# EAGLE library part PIN_3X4X4 (library 01)
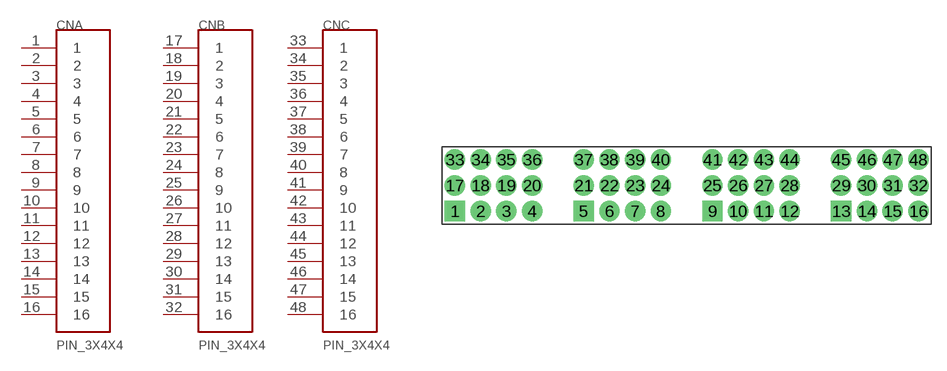
[diagram p7: symbol with the pads of PIN_3X4X4; footprint PIN_3X4X4]

Designator prefix CN; gates A=PIN1X16 B=PIN1X16 C=PIN1X16

## PIN_3X4X4  [PIN_3X4X4]
1  A:1
2  A:2
3  A:3
4  A:4
5  A:5
6  A:6
7  A:7
8  A:8
9  A:9
10  A:10
11  A:11
12  A:12
13  A:13
14  A:14
15  A:15
16  A:16
17  B:1
18  B:2
19  B:3
20  B:4
21  B:5
22  B:6
23  B:7
24  B:8
25  B:9
26  B:10
27  B:11
28  B:12
29  B:13
30  B:14
31  B:15
32  B:16
33  C:1
34  C:2
35  C:3
36  C:4
37  C:5
38  C:6
39  C:7
40  C:8
41  C:9
42  C:10
43  C:11
44  C:12
45  C:13
46  C:14
47  C:15
48  C:16

## Footprint PIN_3X4X4 (pad centres in mm)
drill 1 pad 2 square: 1 1.27,1.27; 5 13.97,1.27; 9 26.67,1.27; 13 39.37,1.27
drill 1 pad 2: 2 3.81,1.27; 3 6.35,1.27; 4 8.89,1.27; 6 16.51,1.27; 7 19.05,1.27; 8 21.59,1.27; 10 29.21,1.27; 11 31.75,1.27; 12 34.29,1.27; 14 41.91,1.27; 15 44.45,1.27; 16 46.99,1.27; 17 1.27,3.81; 18 3.81,3.81; 19 6.35,3.81; 20 8.89,3.81; 21 13.97,3.81; 22 16.51,3.81; 23 19.05,3.81; 24 21.59,3.81; 25 26.67,3.81; 26 29.21,3.81; 27 31.75,3.81; 28 34.29,3.81; 29 39.37,3.81; 30 41.91,3.81; 31 44.45,3.81; 32 46.99,3.81; 33 1.27,6.35; 34 3.81,6.35; 35 6.35,6.35; 36 8.89,6.35; 37 13.97,6.35; 38 16.51,6.35; 39 19.05,6.35; 40 21.59,6.35; 41 26.67,6.35; 42 29.21,6.35; 43 31.75,6.35; 44 34.29,6.35; 45 39.37,6.35; 46 41.91,6.35; 47 44.45,6.35; 48 46.99,6.35